# Altium schematic symbol library J.SchLib: 28 symbols
Pins are listed as number, name and electrical type; pins without a type are passive.

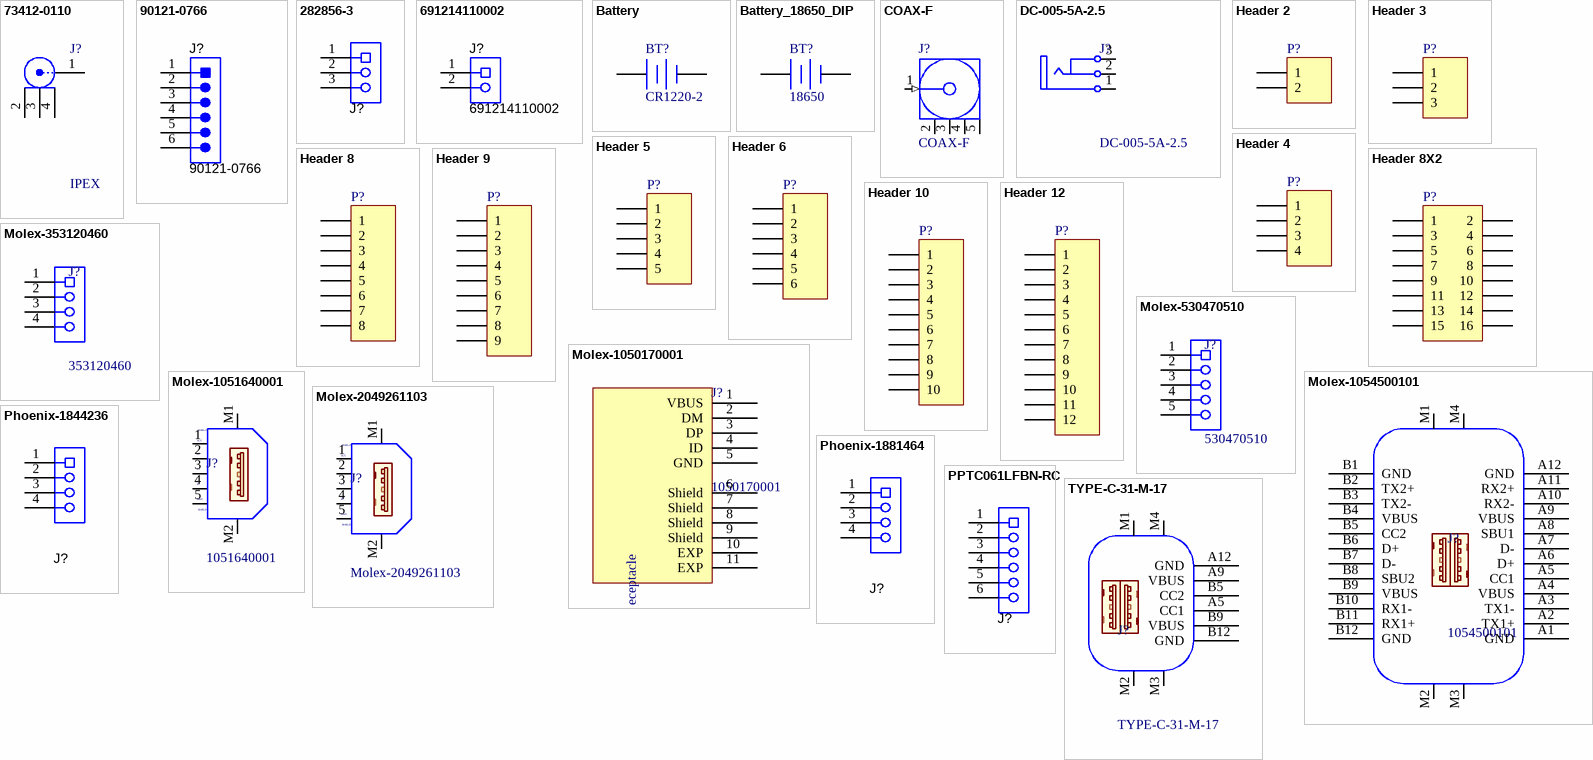
[diagram p0: symbols 73412-0110 to TYPE-C-31-M-17]

## 73412-0110
designator J?, comment IPEX
RF同轴连接器（天线座）; Manufacturer: MOLEX; Code: 734120110; CompType: IPEX插座; DistributorCode: C434806; Package: SMD
footprint molex-73412 (Footprint not found)
pins: 1, 2, 3, 4

## 90121-0766
designator J?
Header, 2.54mm, 6x1, Gold, R/A, TH; Manufacturer: Molex; SymbolCreator: a0412235; Pitch_mm: 2.54; Gender: Male; Shrouded: N; Row_Count: 1; Current_A: 3; Voltage_V: 350; Cert_UL: Y; SymbolVersion: 2013-08-30; PartNumber: 90121-0766; PackageReference: Header, 2.54mm, 6x1, R/A, TH; ClassName: Header; CompType: Header; RoHS: Y; MountType: TH; ComponentLink1Description: Datasheet URL; ComponentLink1URL: http://www.molex.com/pdm_docs/sd/901210766_sd.pdf; Orientation: R/A; PinCount: 6; ContactFinish: Gold; Color: Black; Publisher: Texas Instruments; LatestRevisionDate: 2016-07-28; Supplier 1: Digi-Key; Supplier Part Number 1: WM8112-ND; Supplier 2: Mouser; Supplier Part Number 2: 538-90121-0766; Supplier 3: Farnell; Supplier Part Number 3: 9733477
footprint Molex_90121-0766
pins: 1, 2, 3, 4, 5, 6

## 282856-3
designator J?  (value not drawn)
Receptacle, 3x1, 5mm, R/A, TH; Manufacturer: TE Connectivity; SymbolCreator: a0412235; CompType: Terminal Block; Pitch_mm: 5; Gender: Female; Row_Count: 1; ContactFinish: Tin; Current_A: 24; Voltage_V: 300; Cert_UL: Y; SymbolVersion: 2013-10-03; PartNumber: 282856-3; PackageReference: Receptacle, 3x1, 5mm, R/A, TH; RoHS: Y; MountType: TH; ComponentLink1Description: Datasheet URL; ComponentLink1URL: http://www.te.com/commerce/DocumentDelivery/DDEController?Action=srchrtrv&DocNm=282856&DocType=Customer+Drawing&DocLang=English; Orientation: R/A; PinCount: 3; Color: Green; Publisher: Texas Instruments; LatestRevisionDate: 2016-06-01; Supplier 1: Digi-Key; Supplier Part Number 1: A98356-ND; Supplier 2: Mouser; Supplier Part Number 2: 571-282856-3
footprint TE_282856-3
pins: 1, 2, 3

## 691214110002
designator J?
Terminal Block, 3.5mm, 2x1, Tin, TH; Manufacturer: Wurth Elektronik; Pitch_mm: 3.5; CT: TRUE; CNHeader: FALSE; Voltage_V: 300V; Gender: Female; Cert_UL: Y; Row_Count: 1; Current_A: 10A; Supplier Part Number 1: 732-2747-ND; ContactFinish: Tin; RoHS: Y; Supplier Part Number 3: 710-691214110002; Orientation: Vertical; ComponentLink1Description: Datasheet URL; Supplier 1: Digi-Key; PackageReference: Receptacle, 3.5mm, 2x1, TH; Color: Green; Supplier 2: Newark; PinCount: 2; Publisher: Texas Instruments; CompType: Terminal Block; LatestRevisionDate: 26/05/2017; MountType: TH; PartNumber: 691214110002; Supplier Part Number 2: 16T1479; ComponentLink1URL: http://katalog.we-online.de/em/datasheet/6912141100xx.pdf; Supplier 3: Mouser
footprint Wurth_691214110002 (Receptacle, 3.5mm, 2x1, TH)
pins: 1, 2

## Battery
designator BT?, comment CR1220-2
Multicell Battery; Manufacturer: Q&J; CompType: 电池盒/电池座; Code: CR1220-2; DistributorCode: C70381; Package: 贴片; A_Code: -; A_ComType: -; A_Manufacturer: -
footprint BATTERY-2
pins: 1 +, 2 -

## Battery_18650_DIP
designator BT?, comment 18650
18650单节直插电池仓; Code: DIP-18650; CompType: 电池盒/电池座; DistributorCode: -; Manufacturer: -; Package: DIP; A_Code: -; A_ComType: -; A_Manufacturer: -
footprint BATTERY-2
footprint DIP-18650
pins: 1 +, 2 -

## COAX-F
designator J?
RF天线座 焊板 垂直式/直插; Manufacturer: BAT WIRELESS; Code: BWSMA-KE-Z001MDD; CompType: RF天线座; DistributorCode: C496549; Package: SMA; A_Code: -; A_ComType: -; A_Manufacturer: -
footprint SMA-MCX5.08-H5 (Connector; RF Coaxial, MCX, Thru-Hole; 5 Position; Right-Angle)
pins: 1 Signal (in) "Signal Pin", 2 GND (power), 3 GND (power), 4 GND (power), 5 GND (power)

## DC-005-5A-2.5
designator J?
连接器类型 插孔 / 触点外径 6.5mm / 安装特性 - / 电流额定值 5A / 产品类型 DC电源插座 / 公母 公头 / 安装类型 通孔，直角 / 触点内径 2.5mm / 电压额定值 24V; Manufacturer: XKB Connectivity(中国星坤); CompType: 连接器; Code: DC-005-5A-2.5; DistributorCode: C381115; Package: DC电源插座; A_Code: -; A_ComType: -; A_Manufacturer: -
footprint DC-5.5X2.5
pins: 1 DC+ (power) "Sleeve (Ground)", 2 DC- "Ring/Right Channel/(-)", 3 DC- "Tip/Left Channel/(+)"

## Header 2
designator P?  (value not drawn)
Header, 2-Pin; Code: -; CompType: -; DistributorCode: -; Manufacturer: -; Package: -; A_Code: -; A_ComType: -; A_Manufacturer: -
footprint CP1X2
signal-integrity model Connector
pins: 1, 2

## Header 3
designator P?  (value not drawn)
Header, 3-Pin; Code: -; CompType: -; DistributorCode: -; Manufacturer: -; Package: -; A_Code: -; A_ComType: -; A_Manufacturer: -
footprint CP1X3
signal-integrity model Connector
pins: 1, 2, 3

## Header 4
designator P?  (value not drawn)
Header, 4-Pin; A_Code: -; A_Manufacturer: -; Code: -; DistributorCode: -; Manufacturer: -; Package: -; A_ComType: -; CompType: -
footprint CP1X4 (Connector; Header; 4 Position)
signal-integrity model Connector
pins: 1, 2, 3, 4

## Header 5
designator P?  (value not drawn)
Header, 5-Pin; Code: -; CompType: -; DistributorCode: -; Manufacturer: -; Package: -; A_Code: -; A_ComType: -; A_Manufacturer: -
footprint 1.25mm_p5
signal-integrity model Connector
pins: 1, 2, 3, 4, 5

## Header 6
designator P?
Header, 6-Pin; LatestRevisionDate: 17-Jul-2002; LatestRevisionNote: Re-released for DXP Platform.; Publisher: Altium Limited
footprint CP1X6 (Connector; Header; 6 Position)
signal-integrity model Connector
pins: 1, 2, 3, 4, 5, 6

## Header 8
designator P?  (value not drawn)
Header, 8-Pin; A_Code: -; A_ComType: -; A_Manufacturer: -; Code: -; CompType: -; DistributorCode: -; Manufacturer: -; Package: -
footprint CP1X8 (Connector; Header; 8 Position)
signal-integrity model Connector
pins: 1, 2, 3, 4, 5, 6, 7, 8

## Header 8X2
designator P?  (value not drawn)
Header, 8-Pin, Dual row; A_Code: -; A_ComType: -; A_Manufacturer: -; Code: -; CompType: -; DistributorCode: -; Manufacturer: -; Package: -
footprint CP2X8 (Connector; Header; 8x2 Position)
signal-integrity model Connector
pins: 1, 2, 3, 4, 5, 6, 7, 8, 9, 10, 11, 12, 13, 14, 15, 16

## Header 9
designator P?  (value not drawn)
Header, 9-Pin; Code: -; CompType: -; DistributorCode: -; Manufacturer: -; Package: -; A_Code: -; A_ComType: -; A_Manufacturer: -
footprint CP1X9
signal-integrity model Connector
pins: 1, 2, 3, 4, 5, 6, 7, 8, 9

## Header 10
designator P?  (value not drawn)
Header, 10-Pin; Code: -; CompType: -; DistributorCode: -; Manufacturer: -; Package: -; A_Code: -; A_ComType: -; A_Manufacturer: -
footprint CP1X10
signal-integrity model Connector
pins: 1, 2, 3, 4, 5, 6, 7, 8, 9, 10

## Header 12
designator P?  (value not drawn)
Header, 12-Pin; A_ComType: -; A_Code: -; A_Manufacturer: -; Code: -; CompType: -; DistributorCode: -; Manufacturer: -; Package: -
footprint CP1X12 (Connector; Header; 12 Position)
signal-integrity model Connector
pins: 1, 2, 3, 4, 5, 6, 7, 8, 9, 10, 11, 12

## Molex-353120460
designator J?, comment 353120460
2.5mmx4; Manufacturer: MOLEX; CompType: 连接器; Code: 353120460; DistributorCode: C185200; Package: P=2.5mm; A_Code: -; A_ComType: -; A_Manufacturer: -
footprint molex-353120460_sd
pins: 1, 2, 3, 4

## Molex-530470510
designator J?, comment 530470510
MX1.25 直插 镀锡 5P 针座; Manufacturer: MOLEX; CompType: 连接器; Code: 530470510; DistributorCode: C471412; Package: 1.25mm 5p; A_Code: -; A_ComType: -; A_Manufacturer: -
footprint 1.25mm_p5
pins: 1, 2, 3, 4, 5

## Molex-1050170001
designator J?, comment 1050170001
USB连接器; Manufacturer: MOLEX; CompType: 连接器; Code: 1050170001; DistributorCode: C136000; Package: MicroUSB; A_Code: -; A_ComType: -; A_Manufacturer: -
footprint CON_USBMICROB_MOLEX_105017-0001_H2P90
pins: 1 VBUS, 2 DM, 3 DP, 4 ID, 5 GND, 6 Shield, 7 Shield, 8 Shield, 9 Shield, 10 EXP, 11 EXP
text: USB_Micro-B receptacle

## Molex-1051640001
designator J?, comment 1051640001
USB连接器; Manufacturer: MOLEX; CompType: 连接器; Code: 1051640001; DistributorCode: C234179; Package: MicroUSB; A_Code: -; A_ComType: -; A_Manufacturer: -
footprint MOLEX_1051640001_B2N
pins: 1 VCC (power), 2 D-, 3 D+, 4 ID, 5 GND (power), M1 SHIELD1 (power), M2 SHIELD2 (power)
text: SHIELD

## Molex-1054500101
designator J?, comment 1054500101
USB连接器USB-typeC-24; Manufacturer: MOLEX; CompType: 连接器; Code: 1054500101; DistributorCode: C134092; Package: USB-typeC-24; A_Code: -; A_ComType: -; A_Manufacturer: -
footprint Type_C-CONN24_1054500101
pins: A1 GND, A2 TX1+, A3 TX1-, A4 VBUS, A5 CC1, A6 D+, A7 D-, A8 SBU1, A9 VBUS, A10 RX2-, A11 RX2+, A12 GND, B1 GND, B2 TX2+, B3 TX2-, B4 VBUS, B5 CC2, B6 D+, B7 D-, B8 SBU2, B9 VBUS, B10 RX1-, B11 RX1+, B12 GND, M1 SHIELD (power), M2 SHIELD (power), M3 SHIELD (power), M4 SHIELD (power)

## Molex-2049261103
designator J?
USB连接器; Manufacturer: MOLEX; CompType: 连接器; Code: 2049261103; DistributorCode: C585464; Package: MicroUSB; A_Code: -; A_ComType: -; A_Manufacturer: -
footprint MOLEX-204926
pins: 1 VCC (power), 2 D-, 3 D+, 4 ID, 5 GND (power), M1 SHIELD1 (power), M2 SHIELD2 (power)
text: SHIELD

## Phoenix-1844236
designator J?, comment 1844236  (value not drawn)
印刷线路板壳体， 额定横截面: 1.5 mm²， 颜色: 绿色， 标称工作电流: 8 A， 额定电压(III/2): 160 V， 触点表面: 锡， 触点类型: 针式连接器， 电位数: 4， 行数: 1， 每行位数: 4， 连接量: 4， 产品系列: MC 1,5/..-G， 针距: 3.5 mm， 安装: 波峰焊， 针脚排列: 直线排列， 焊针[P]: 3.4 mm; Manufacturer: Phoenix Contact(菲尼克斯); CompType: 连接器; Code: 1844236; DistributorCode: C480590; Package: P=3.5mm
footprint pxc_1844236_05_MC-1-5-4-G-3-5
pins: 1, 2, 3, 4

## Phoenix-1881464
designator J?, comment 1881464  (value not drawn)
印刷线路板壳体， 额定横截面: 0.5 mm²， 颜色: 绿色， 标称工作电流: 4 A， 额定电压(III/2): 160 V， 触点表面: 锡， 触点类型: 针式连接器， 电位数: 4， 行数: 1， 每行位数: 4， 连接量: 4， 产品系列: MC 0,5/..-G， 针距: 2.5 mm， 安装: 波峰焊， 导线／PCB连接方向: 0 °， 针脚排列: 直线排列， 焊针[P]: 3.8 mm; Manufacturer: Phoenix Contact(菲尼克斯); CompType: 连接器; Code: 1881464; DistributorCode: C480575; Package: P=2.5mm
footprint pxc_1881464_00_MC-0-5-4-G-2-5
pins: 1, 2, 3, 4

## PPTC061LFBN-RC
designator J?  (value not drawn)
Receptacle, 100mil, 6x1, Tin, TH; Manufacturer: Sullins Connector Solutions; CNHeader: FALSE; Current_A: 3A; Gender: Female; Voltage_V: 250V; CompType: Socket Strip; Pitch_mm: 2.54; CT: TRUE; Cert_UL: Y; ComponentLink1URL: http://www.sullinscorp.com/drawings/78_P(N)PxCxxxLFBN-RC,_10492-G.pdf; Publisher: Texas Instruments; Color: Black; RoHS: Y; MountType: TH; Supplier 1: Digi-Key; PackageReference: Receptacle, 6x1, 2.54mm, Female, TH; LatestRevisionDate: 26/05/2017; PartNumber: PPTC061LFBN-RC; ComponentLink1Description: Datasheet URL; Supplier Part Number 1: S7004-ND; ContactFinish: Tin
footprint Sullins_PPTC061LFBN-RC (Receptacle, 6x1, 2.54mm, Female, TH)
pins: 1, 2, 3, 4, 5, 6

## TYPE-C-31-M-17
designator J?
USB连接器USB-typeC-6; Manufacturer: 韩国韩荣; CompType: 连接器; Code: TYPE-C-31-M-17; DistributorCode: C283540; Package: USB-typeC-6; A_Code: -; A_ComType: -; A_Manufacturer: -
footprint Type_C-6P
pins: A5 CC1, A9 VBUS, A12 GND, B5 CC2, B9 VBUS, B12 GND, M1 SHIELD (power), M2 SHIELD (power), M3 SHIELD (power), M4 SHIELD (power)